# EAGLE library part 0.05"_IDC_HEADER (library CNC Tech)
3240 Series IDC Wire-To-Board Header, 0.025" Cable Pitch, 0.05" Pin Pitch, 14 Positions Datasheet: http://cnctech.us/pdfs/3240-XX-00.pdf
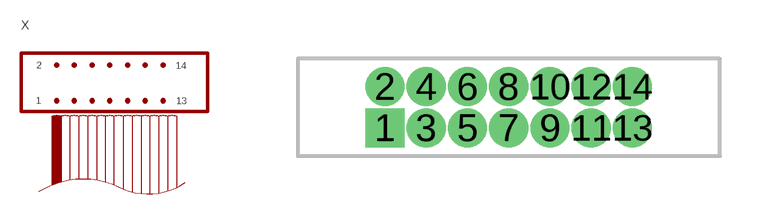
[diagram p0: symbol with the pads of 3240-14-00; footprint 3240-14-00]

Designator prefix X

## 0.05"_IDC_HEADER (PARTNO: 3240-14-00)  [3240-14-00]
1  1
2  2
3  3
4  4
5  5
6  6
7  7
8  8
9  9
10  10
11  11
12  12
13  13
14  14

## Footprint 3240-14-00 (pad centres in mm)
3240 Series IDC Wire-To-Board Header, 0.025" Cable Pitch, 0.05" Pin Pitch, 14 Positions Datasheet: http://cnctech.us/pdfs/3240-XX-00.pdf
drill 0.7 pad 1.092 square: 1 -3.81,-0.635
drill 0.7 pad 1.092 round: 2 -3.81,0.635; 3 -2.54,-0.635; 4 -2.54,0.635; 5 -1.27,-0.635; 6 -1.27,0.635; 7 0,-0.635; 8 0,0.635; 9 1.27,-0.635; 10 1.27,0.635; 11 2.54,-0.635; 12 2.54,0.635; 13 3.81,-0.635; 14 3.81,0.635